# EAGLE library part 691401710008 (library Wurth_Elektronik_Electromechanic_Terminal_Blocks_Connectors_rev16b)
WR-TBL Terminal block - serie 401 5,0mm - Spring clamp/Screw less - horizontal entry Code:Con_TBL_Screwless_5.00_6914017100xxB Created 2014-12-22, aslant tao 2014 (C) Würth Elektronik
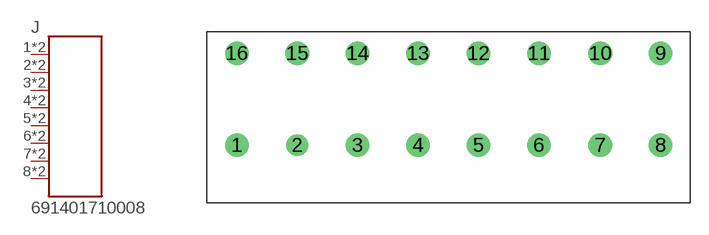
[diagram p214: symbol with the pads of 691401710008; footprint 691401710008]

Designator prefix J

## 691401710008  [691401710008]
1  1  pas
2  2  pas
3  3  pas
4  4  pas
5  5  pas
6  6  pas
7  7  pas
8  8  pas
9  8  pas
10  7  pas
11  6  pas
12  5  pas
13  4  pas
14  3  pas
15  2  pas
16  1  pas

## Footprint 691401710008 (pad centres in mm)
WR-TBL Serie 401 - 5.0mm Screwless Horizontal Entry - 2 mm2 Wires, 8 Pins
drill 1.3: 1 -19.92,-3.81; 3 -9.92,-3.81; 4 -4.92,-3.81; 5 0.08,-3.81; 6 5.08,-3.81; 7 10.16,-3.81; 8 15.16,-3.81; 9 15.16,3.81; 10 10.16,3.81; 11 5.08,3.81; 12 0.08,3.81; 13 -4.92,3.81; 14 -9.92,3.81; 15 -14.92,3.81; 16 -19.92,3.81
drill 1.2: 2 -14.92,-3.81